# Altium footprint library Antenna 2.4 GHz.PcbLib: 1 footprints
Each footprint in its own frame and in the unit in brackets; x right, y up, seen from the top. Pads: shape width x height; smd on the part's side, far side on the other; paste and mask are expansions set on the pad; w line width, h text height; cw(c..) or ccw(c..) is an arc to the next point about the centre after c.
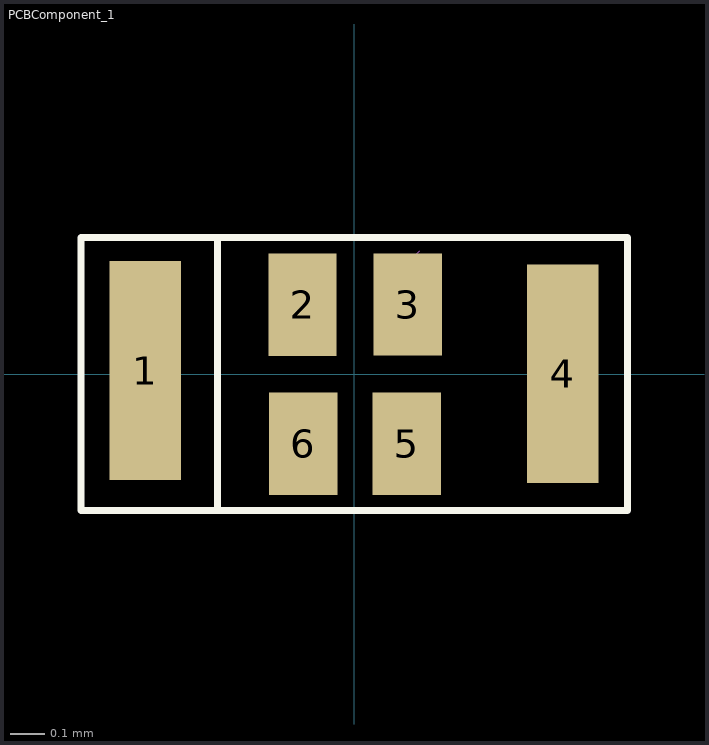
[diagram p0: the footprint, top view; thin cyan lines are the x and y axes]

## PCBComponent_1 [mil]
pads (6):
  rect 8.26x25.2 smd: 1(-24.07,0.42) 4(24.07,0.03)
  rect 7.88x11.81 smd: 2(-5.93,8) 3(6.21,8.03) 5(6.07,-8.03)
  rect 7.87x11.81 smd: 6(-5.84,-8.03)
Top Overlay:
  lines w0.79: -15.71,-15.73 -15.71,15.77 ; -31.46,-15.73 -31.46,15.77 31.54,15.77 31.54,-15.73 -31.46,-15.73
Mechanical 15:
  lines w0.1: 5.59,12.2 7.59,14.2
3D body "User Library-ANT016008LCS2442MA2.STEP": height 16.14, standoff 0, extent -31.5,-15.74 31.5,15.75